# Altium schematic symbol library SVGAJACK.Schlib: 1 symbol
Pins are listed as number, name and electrical type; pins without a type are passive.

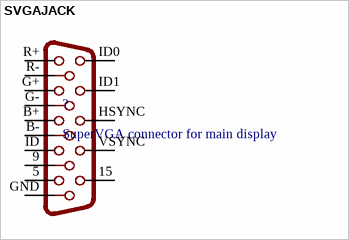
[diagram p0: symbol SVGAJACK]

## SVGAJACK
designator ?, comment SuperVGA connector for main display
footprint HDF15V
pins: 5, 9, 15, B+ 3, B- 8, G+ 2, G- 7, GND 10, HSYNC 13, ID 4, ID0 11, ID1 12, R+ 1, R- 6, VSYNC 14